# Altium footprint library Transformers.PcbLib: 7 footprints
Each footprint in its own frame and in the unit in brackets; x right, y up, seen from the top. Pads: shape width x height; smd on the part's side, far side on the other; paste and mask are expansions set on the pad; w line width, h text height; cw(c..) or ccw(c..) is an arc to the next point about the centre after c.
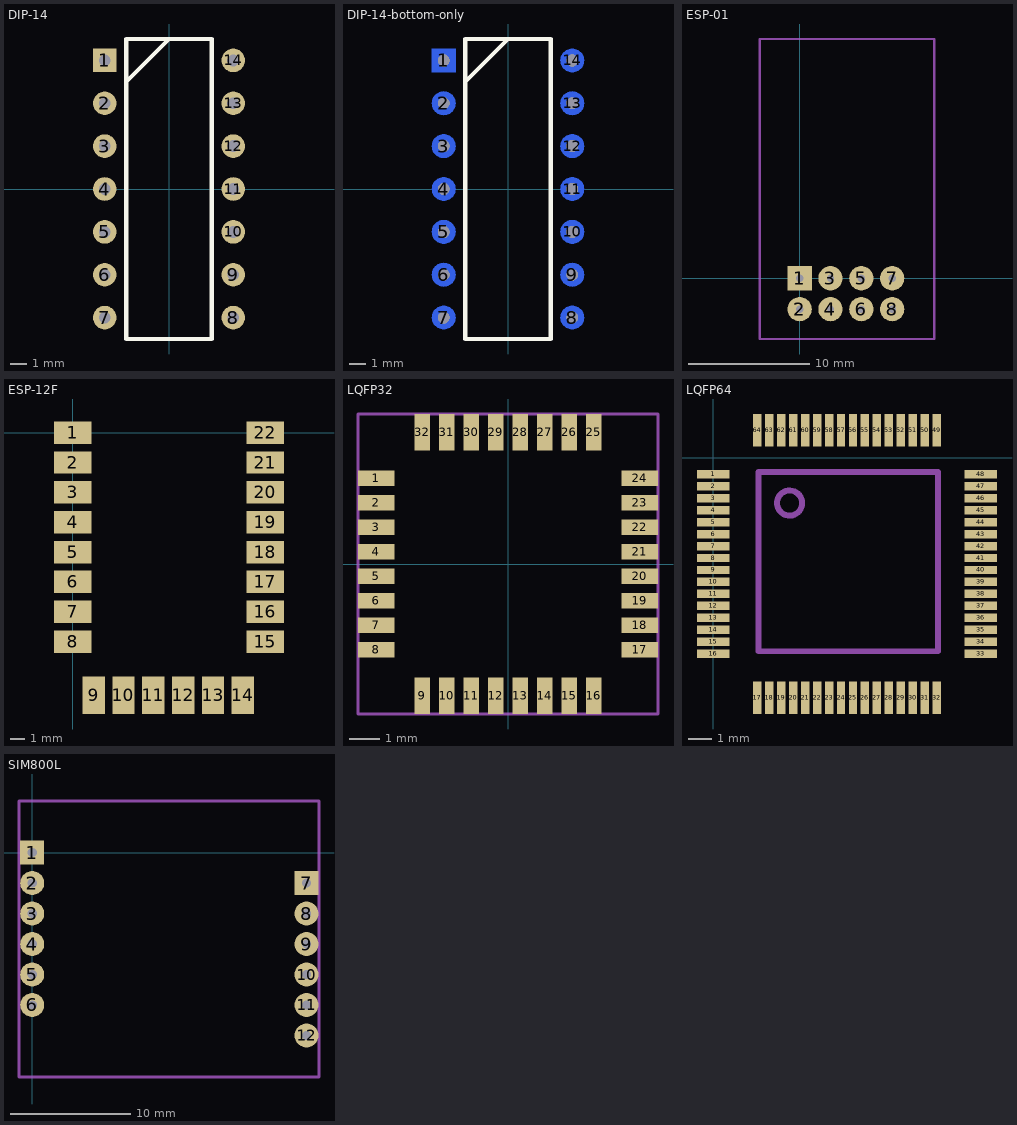
[diagram p0: the footprints below, top view; thin cyan lines are the x and y axes]

## DIP-14 [mm]
pads (14):
  rect 1.4x1.4 hole 0.7 unplated mask+0.102: 1(-3.81,7.62)
  round 1.4 hole 0.7 unplated mask+0.102: 2(-3.81,5.08) 3(-3.81,2.54) 4(-3.81,0) 5(-3.81,-2.54) 6(-3.81,-5.08) 7(-3.81,-7.62) 8(3.81,-7.62) 9(3.81,-5.08) 10(3.81,-2.54) 11(3.81,0) 12(3.81,2.54) 13(3.81,5.08) 14(3.81,7.62)
Top Overlay:
  lines w0.25: -2.54,6.35 0,8.89 ; -2.54,-8.89 2.54,-8.89 2.54,8.89 -2.54,8.89 -2.54,7.62 -2.54,-7.62 -2.54,-8.89

## DIP-14-bottom-only [mm]
pads (14):
  rect 1.4x1.4 smd far side mask+0.102: 1(-3.81,7.62)
  round 1.4 smd far side mask+0.102: 2(-3.81,5.08) 3(-3.81,2.54) 4(-3.81,0) 5(-3.81,-2.54) 6(-3.81,-5.08) 7(-3.81,-7.62) 8(3.81,-7.62) 9(3.81,-5.08) 10(3.81,-2.54) 11(3.81,0) 12(3.81,2.54) 13(3.81,5.08) 14(3.81,7.62)
via -3.81,7.62 diameter 0.7 hole 0.7
via -3.81,5.08 diameter 0.7 hole 0.7
via -3.81,2.54 diameter 0.7 hole 0.7
via -3.81,0 diameter 0.7 hole 0.7
via -3.81,-2.54 diameter 0.7 hole 0.7
via -3.81,-5.08 diameter 0.7 hole 0.7
via -3.81,-7.62 diameter 0.7 hole 0.7
via 3.81,-7.62 diameter 0.7 hole 0.7
via 3.81,-5.08 diameter 0.7 hole 0.7
via 3.81,-2.54 diameter 0.7 hole 0.7
via 3.81,0 diameter 0.7 hole 0.7
via 3.81,2.54 diameter 0.7 hole 0.7
via 3.81,5.08 diameter 0.7 hole 0.7
via 3.81,7.62 diameter 0.7 hole 0.7
Top Overlay:
  lines w0.25: -2.54,6.35 0,8.89 ; -2.54,-8.89 2.54,-8.89 2.54,8.89 -2.54,8.89 -2.54,7.62 -2.54,-7.62 -2.54,-8.89

## ESP-01 [mm]
pads (8):
  rect 2x2 hole 0.6 paste+0 mask+0: 1(0,0)
  round 2 hole 0.6 paste+0 mask+0: 2(0,-2.54) 3(2.54,0) 4(2.54,-2.54) 5(5.08,0) 6(5.08,-2.54) 7(7.62,0) 8(7.62,-2.54)
Mechanical 1:
  lines w0.2: -3.3,-5 11.1,-5 11.1,19.7 -3.3,19.7 -3.3,-5

## ESP-12F [mm]
pads (22):
  rect 2.5x1.5 smd: 1(0,0) 2(0,-2) 3(0,-4) 4(0,-6) 5(0,-8) 6(0,-10) 7(0,-12) 8(0,-14) 15(12.9,-14) 16(12.9,-12) 17(12.9,-10) 18(12.9,-8) 19(12.9,-6) 20(12.9,-4) 21(12.9,-2) 22(12.9,0)
  rect 1.5x2.5 smd: 9(1.4,-17.6) 10(3.4,-17.6) 11(5.4,-17.6) 12(7.4,-17.6) 13(9.4,-17.6) 14(11.4,-17.6)

## LQFP32 [mm]
pads (32):
  rect 1.2x0.5 smd: 1(-4.3,2.8) 2(-4.3,2) 3(-4.3,1.2) 4(-4.3,0.4) 5(-4.3,-0.4) 6(-4.3,-1.2) 7(-4.3,-2) 8(-4.3,-2.8) 17(4.3,-2.8) 18(4.3,-2) 19(4.3,-1.2) 20(4.3,-0.4) 21(4.3,0.4) 22(4.3,1.2) 23(4.3,2) 24(4.3,2.8)
  rect 0.5x1.2 smd: 9(-2.8,-4.3) 10(-2,-4.3) 11(-1.2,-4.3) 12(-0.4,-4.3) 13(0.4,-4.3) 14(1.2,-4.3) 15(2,-4.3) 16(2.8,-4.3) 25(2.8,4.3) 26(2,4.3) 27(1.2,4.3) 28(0.4,4.3) 29(-0.4,4.3) 30(-1.2,4.3) 31(-2,4.3) 32(-2.8,4.3)
Mechanical 1:
  lines w0.1: -4.9,-4.9 4.9,-4.9 4.9,4.9 -4.9,4.9 -4.9,-4.9
  text "LQFP32" at -3.2,5.6 h1.2

## LQFP64 [mm]
pads (64):
  rect 1.35x0.35 smd mask+0: 1(0,-0.7) 2(0,-1.2) 3(0,-1.7) 4(0,-2.2) 5(0,-2.7) 6(0,-3.2) 7(0,-3.7) 8(0,-4.2) 9(0,-4.7) 10(0,-5.2) 11(0,-5.7) 12(0,-6.2) 13(0,-6.7) 14(0,-7.2) 15(0,-7.7) 16(0,-8.2) 33(11.2,-8.2) 34(11.2,-7.7) 35(11.2,-7.2) 36(11.2,-6.7) 37(11.2,-6.2) 38(11.2,-5.7) 39(11.2,-5.2) 40(11.2,-4.7) 41(11.2,-4.2) 42(11.2,-3.7) 43(11.2,-3.2) 44(11.2,-2.7) 45(11.2,-2.2) 46(11.2,-1.7) 47(11.2,-1.2) 48(11.2,-0.7)
  rect 0.35x1.35 smd mask+0: 17(1.85,-10.05) 18(2.35,-10.05) 19(2.85,-10.05) 20(3.35,-10.05) 21(3.85,-10.05) 22(4.35,-10.05) 23(4.85,-10.05) 24(5.35,-10.05) 25(5.85,-10.05) 26(6.35,-10.05) 27(6.85,-10.05) 28(7.35,-10.05) 29(7.85,-10.05) 30(8.35,-10.05) 31(8.85,-10.05) 32(9.35,-10.05) 49(9.35,1.15) 50(8.85,1.15) 51(8.35,1.15) 52(7.85,1.15) 53(7.35,1.15) 54(6.85,1.15) 55(6.35,1.15) 56(5.85,1.15) 57(5.35,1.15) 58(4.85,1.15) 59(4.35,1.15) 60(3.85,1.15) 61(3.35,1.15) 62(2.85,1.15) 63(2.35,1.15) 64(1.85,1.15)
Mechanical 1:
  circle w0.25: c3.2,-1.9 r0.526
  lines w0.25: 1.9,-8.1 9.4,-8.1 9.4,-0.6 1.9,-0.6 1.9,-8.1

## SIM800L [mm]
pads (12):
  rect 2x2 hole 0.762: 1(0,0) 7(22.86,-2.54)
  round 2 hole 0.762: 2(0,-2.54) 3(0,-5.08) 4(0,-7.62) 5(0,-10.16) 6(0,-12.7) 8(22.86,-5.08) 9(22.86,-7.62) 10(22.86,-10.16) 11(22.86,-12.7) 12(22.86,-15.24)
Mechanical 1:
  lines w0.254: -1.1,-18.7 23.9,-18.7 23.9,4.3 -1.1,4.3 -1.1,-18.7